# Altium schematic symbol library LINE_CHOKE.Schlib: 1 symbol
Pins are listed as number, name and electrical type; pins without a type are passive.

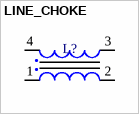
[diagram p0: symbol LINE_CHOKE]

## LINE_CHOKE
designator L?
pins: 1, 2, 3, 4